# Altium schematic symbol library SCH - PASSIVES - INDUCTOR CMC ARRAY (2 CIRCUIT).SCHLIB: 1 symbol
Pins are listed as number, name and electrical type; pins without a type are passive.

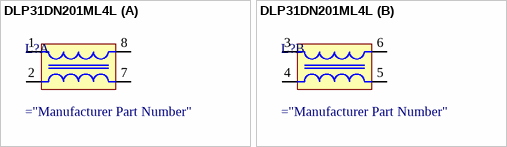
[diagram p0: symbol DLP31DN201ML4L]

## DLP31DN201ML4L
designator L?
Inductor, CMC, 200Ohm@100MHz
part A pins: 1 IN B, 2 IN A, 7 OUT "Output", 8 OUT "Output"
part B pins: 3 IN B, 4 IN A, 5 OUT "Output", 6 OUT "Output"